# Altium schematic symbol library SCH - INTERFACE - SPI - WE-760390015.SCHLIB: 1 symbol
Pins are listed as number, name and electrical type; pins without a type are passive.

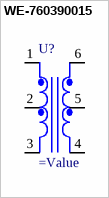
[diagram p0: symbol WE-760390015]

## WE-760390015
designator U?
MID-PPTI Push-Pull Transformers for Texas Instruments
pins: 1, 2, 3, 4, 5, 6